# EAGLE library part TLV767**DRVR (library SW_LDO)
Linear Voltage Regulator IC Positive Fixed 1 Output 1A 6-WSON (2x2)
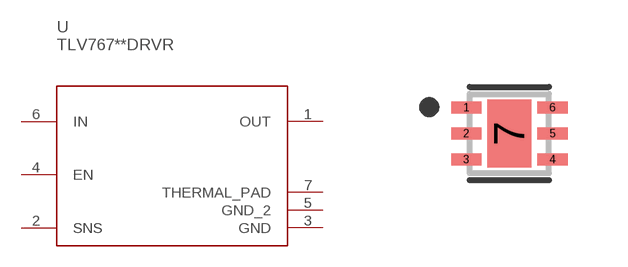
[diagram p2: symbol with the pads of DRV0006A-IPC_A; footprint DRV0006A-IPC_A]

Designator prefix U

## TLV767DRVR5VFIXED (CATEGORY: Power; DESCRIPTION: Linear Voltage Regulator IC Positive Fixed 1 Output 1A 6-WSON (2x2); MFGS: Microchip,Microchip; MPNS: TLV76750DRVR,TLV76750DRVT; PACKAGE: 6-WSON; PART_NUMBER: TLV76750DRV; SW_PART_NUMBER: SW0000828), TLV7673.33.3DRVR5VFIXED (CATEGORY: Power; DESCRIPTION: Linear Voltage Regulator IC Positive Fixed 1 Output 1A 6-WSON (2x2); MFGS: Microchip,Microchip; MPNS: TLV76733DRVR,TLV76733DRVT; PACKAGE: 6-WSON; PART_NUMBER: TLV76733DRV; SW_PART_NUMBER: SW0000829)  [DRV0006A-IPC_A]
1  OUT  out
2  SNS  in
3  GND  pwr
4  EN  in
5  GND_2  pwr
6  IN  pwr
7  THERMAL_PAD  pas

## Footprint DRV0006A-IPC_A (pad centres in mm)
smd 0.756 x 0.292: 1 -1.078,0.65; 2 -1.078,0; 3 -1.078,-0.65; 4 1.078,-0.65; 5 1.078,0; 6 1.078,0.65
smd 1.1 x 1.7: 7 0,0